# Altium schematic symbol library imd_components.SchLib: 14 symbols
Pins are listed as number, name and electrical type; pins without a type are passive.

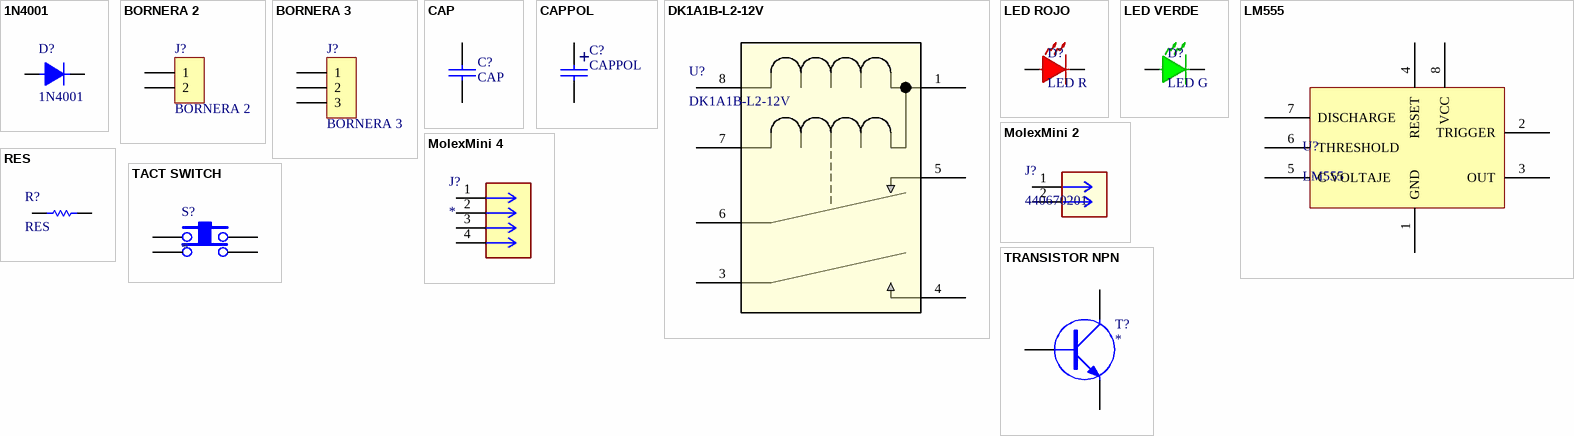
[diagram p0: symbols 1N4001 to TRANSISTOR NPN]

## 1N4001
designator D?
Diodo
footprint DO41
pins: 1, 2

## BORNERA 2
designator J?
footprint BORNERA2 (Bornera con Tornillos 5mm separación)
pins: 1, 2

## BORNERA 3
designator J?
footprint BORNERA3 (Bornera con Tornillos 5mm separación)
pins: 1, 2, 3

## CAP
designator C?
footprint CAP200
pins: 1, 2

## CAPPOL
designator C?
footprint CAP300RP
pins: 1, 2
text: +

## DK1A1B-L2-12V
designator U?
Description; Manufacturer_Name: Panasonic; Copyright: Copyright (C) 2026 Ultra Librarian. All rights reserved.; Manufacturer_Part_Number: DK1A1B-L2-12V; RefDes: RefDes; Type: Type
footprint RELAY_DK2A_L2_PAN
pins: 1 4, 3 6, 4 3, 5, 6 7, 7 2, 8 1

## LED ROJO
designator D?, comment LED R
LED ROJO
footprint LED 3 - Red
pins: 1, 2

## LED VERDE
designator D?, comment LED G
LED VERDE
footprint LED 3 - Green
pins: 1, 2

## LM555
designator U?
Timer
footprint DIP8
pins: 1 GND, 2 TRIGGER, 3 OUT, 4 RESET, 5 C VOLTAJE, 6 THRESHOLD, 7 DISCHARGE, 8 VCC

## MolexMini 2
designator J?, comment 440670201
Micro-Fit 3.0 Wire-to-Board Header, Dual Row, Vertical for up to 3.56mm Thick PCB, 2 Circuits, Tin (Sn) Plating; Manufacturer_Name: Molex Connector Corporation; Copyright: Copyright (C) 2025 Ultra Librarian. All rights reserved.; Manufacturer_Part_Number: 440670201; RefDes: RefDes; Type: Type
footprint CONN_SD-44067-001_02_MOL
pins: 1, 2

## MolexMini 4
designator J?
Molex mini 40 de 4 pines (347920040); Package: None; Price: None; Value: *; MP: 347920040; Availability: Unavailable
footprint CONN_SD-44067-001_04_MOL
pins: 1, 2, 3, 4

## RES
designator R?
footprint RES400
pins: 1, 2

## TACT SWITCH
designator S?
footprint TACTSWITCH
pins: 1, 2, 3, 4

## TRANSISTOR NPN
designator T?
footprint TO92
footprint TO-18
pins: 1 B, 2 C, 3 E